# EAGLE library part SJ-43515TS-SMT-TR (library circuit_tree)
IC
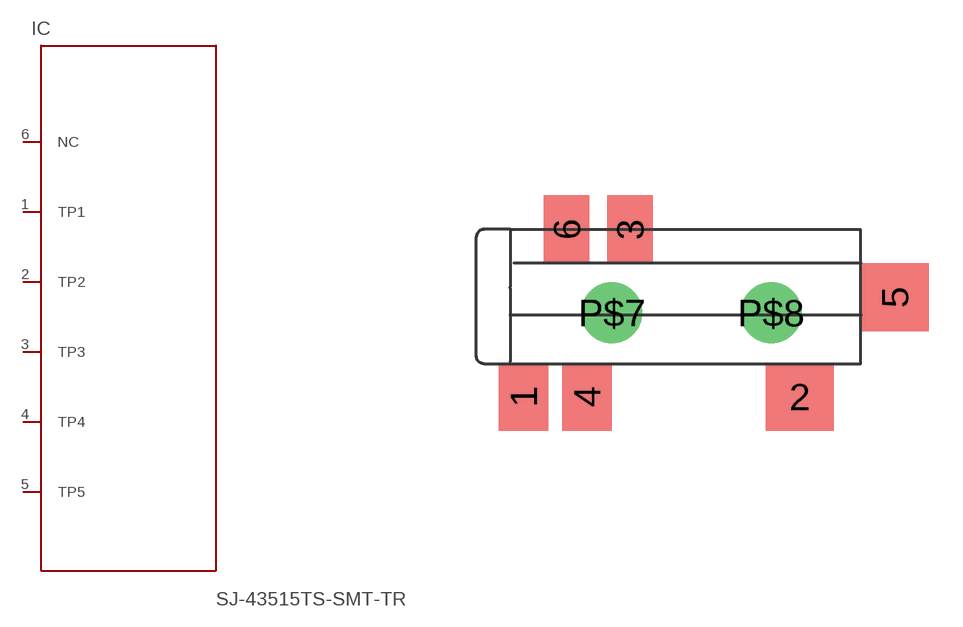
[diagram p10: symbol with the pads of SJ-43515TS-SMT-TR; footprint SJ-43515TS-SMT-TR]

Designator prefix IC

## SJ-43515TS-SMT-TR  [SJ-43515TS-SMT-TR]
1  TP1  pas
2  TP2  pas
3  TP3  pas
4  TP4  pas
5  TP5  pas
6  NC  pas

## Footprint SJ-43515TS-SMT-TR (pad centres in mm)
smd 2.2 x 3: 1 0.6,-7.4; 4 3.4,-7.4
smd 3 x 3: 2 12.8,-7.4; 5 17,-3
smd 2 x 3: 3 5.3,0; 6 2.5,0
drill 1.8: P$7 4.5,-3.69; P$8 11.54,-3.69